# EAGLE library part HAMEG-PORT (library ++Platinensymbole)
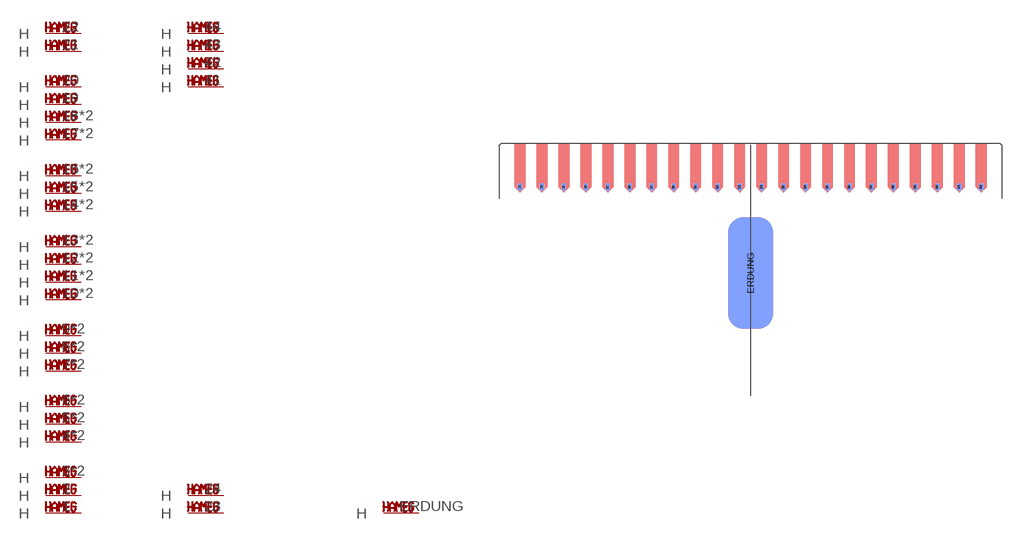
[diagram p0: symbol with the pads of HAMEG-PORT; footprint HAMEG-PORT]

Designator prefix X; gates H1_BNC_1_4=HAMEG-PORT H2_BNC_2_3=HAMEG-PORT H3_GND=HAMEG-PORT H4_+5V_1A=HAMEG-PORT H5_-5V&8V=HAMEG-PORT H6_+8V_1A=HAMEG-PORT H7_+5V_BIS_20V_0.5A=HAMEG-PORT H8_-5V_BIS_20V=HAMEG-PORT H9_5V_BIS_20V_V1=HAMEG-PORT H10_0V_VAC=HAMEG-PORT H11_18V_VAC=HAMEG-PORT H12_25V_VAC=HAMEG-PORT H13_R_VAC=HAMEG-PORT H14_+5V_BIS_20V_0.5A=HAMEG-PORT H15_-5V_BIS_20V=HAMEG-PORT H16_5V-20V_V2=HAMEG-PORT H17_0V_VAC?=HAMEG-PORT H18_18V_VAC?=HAMEG-PORT H19_25V_VAC?=HAMEG-PORT H20_R_VAC?=HAMEG-PORT H21_8VAC_0.5A=HAMEG-PORT H22_8VAC=HAMEG-PORT H23_NC=HAMEG-PORT H24_NC=HAMEG-PORT H41_NC=HAMEG-PORT H42_NC=HAMEG-PORT H43_NC=HAMEG-PORT H44_NC=HAMEG-PORT HERDUNG=HAMEG-PORT

## HAMEG-PORT  [HAMEG-PORT]
1  H1_BNC_1_4:H
2  H2_BNC_2_3:H
3  H3_GND:H
4  H4_+5V_1A:H
5  H5_-5V&8V:H
6  H6_+8V_1A:H
7  H7_+5V_BIS_20V_0.5A:H
8  H8_-5V_BIS_20V:H
9  H9_5V_BIS_20V_V1:H
10  H10_0V_VAC:H
11  H11_18V_VAC:H
12  H12_25V_VAC:H
13  H13_R_VAC:H
14  H14_+5V_BIS_20V_0.5A:H
15  H15_-5V_BIS_20V:H
16  H16_5V-20V_V2:H
17  H17_0V_VAC?:H
18  H18_18V_VAC?:H
19  H19_25V_VAC?:H
20  H20_R_VAC?:H
21  H21_8VAC_0.5A:H
22  H22_8VAC:H
23  H23_NC:H
24  H24_NC:H
25  H3_GND:H
26  H4_+5V_1A:H
27  H5_-5V&8V:H
28  H6_+8V_1A:H
29  H7_+5V_BIS_20V_0.5A:H
30  H8_-5V_BIS_20V:H
31  H9_5V_BIS_20V_V1:H
32  H10_0V_VAC:H
33  H11_18V_VAC:H
34  H12_25V_VAC:H
35  H13_R_VAC:H
36  H14_+5V_BIS_20V_0.5A:H
37  H15_-5V_BIS_20V:H
38  H16_5V-20V_V2:H
39  H17_0V_VAC?:H
40  H18_18V_VAC?:H
41  H41_NC:H
42  H42_NC:H
43  H43_NC:H
44  H44_NC:H
ERDUNG  HERDUNG:H

## Footprint HAMEG-PORT (pad centres in mm)
smd 0.635 x 1.27 bottom: 1 -41.344,-7.789; 2 -37.406,-7.789; 3 -33.469,-7.789; 4 -29.531,-7.789; 5 -25.594,-7.789; 6 -21.656,-7.789; 7 -17.719,-7.789; 8 -13.781,-7.789; 9 -9.844,-7.789; 10 -5.906,-7.789; 11 -1.969,-7.789; 12 1.969,-7.789; 13 5.906,-7.789; 14 9.844,-7.789; 15 13.781,-7.789; 16 17.719,-7.789; 17 21.656,-7.789; 18 25.594,-7.789; 19 29.531,-7.789; 20 33.469,-7.789; 21 37.406,-7.789; 22 41.344,-7.789
smd 0.635 x 1.27: 23 -41.344,-7.789; 24 -37.406,-7.789; 25 -33.469,-7.789; 26 -29.531,-7.789; 27 -25.594,-7.789; 28 -21.656,-7.789; 29 -17.719,-7.789; 30 -13.781,-7.789; 31 -9.844,-7.789; 32 -5.906,-7.789; 33 -1.969,-7.789; 34 1.969,-7.789; 35 5.906,-7.789; 36 9.844,-7.789; 37 13.781,-7.789; 38 17.719,-7.789; 39 21.656,-7.789; 40 25.594,-7.789; 41 29.531,-7.789; 42 33.469,-7.789; 43 37.406,-7.789; 44 41.344,-7.789
smd 8 x 20 bottom: ERDUNG 0,-23.2